# Altium footprint library DBT0030A_L.PcbLib: 1 footprints
Each footprint in its own frame and in the unit in brackets; x right, y up, seen from the top. Pads: shape width x height; smd on the part's side, far side on the other; paste and mask are expansions set on the pad; w line width, h text height; cw(c..) or ccw(c..) is an arc to the next point about the centre after c.
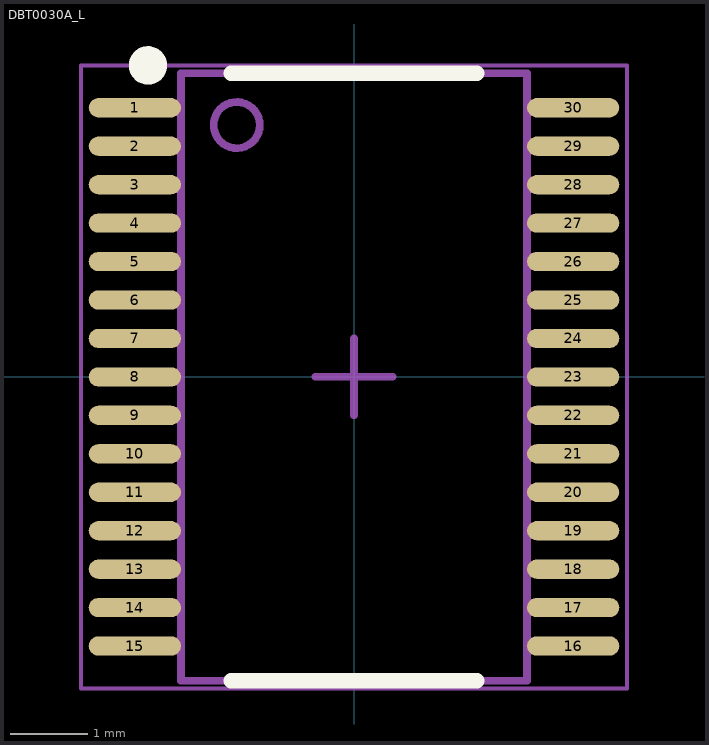
[diagram p0: the footprint, top view; thin cyan lines are the x and y axes]

## DBT0030A_L [mm]
pads (30):
  oval 1.2x0.25 smd paste+0 mask+0.051: 1(-2.85,3.5) 2(-2.85,3) 3(-2.85,2.5) 4(-2.85,2) 5(-2.85,1.5) 6(-2.85,1) 7(-2.85,0.5) 8(-2.85,0) 9(-2.85,-0.5) 10(-2.85,-1) 11(-2.85,-1.5) 12(-2.85,-2) 13(-2.85,-2.5) 14(-2.85,-3) 15(-2.85,-3.5) 16(2.85,-3.5) 17(2.85,-3) 18(2.85,-2.5) 19(2.85,-2) 20(2.85,-1.5) 21(2.85,-1) 22(2.85,-0.5) 23(2.85,0) 24(2.85,0.5) 25(2.85,1) 26(2.85,1.5) 27(2.85,2) 28(2.85,2.5) 29(2.85,3) 30(2.85,3.5)
Top Overlay:
  circle w0.25: c-2.679,4.05 r0.125
  lines w0.2: -1.6,-3.95 1.6,-3.95 ; -1.6,3.95 1.6,3.95
Mechanical 13:
  circle w0.1: c-1.525,3.275 r0.3
  lines w0.1: -2.25,-3.95 2.25,-3.95 2.25,3.95 -2.25,3.95 -2.25,-3.95
Mechanical 15:
  lines w0.05: -3.55,-4.05 -3.55,4.05 3.55,4.05 3.55,-4.05 -3.55,-4.05
  lines w0.1: -0.5,0 0.5,0 ; 0,-0.5 0,0.5
3D body "SW3dPS-TSSOP-30.STEP": height 1.12, standoff -0.02, extent -3.2,-3.963 3.2,3.937